# EAGLE library part LM358 (library SM-OpAmp)
Dual In Line / Socket
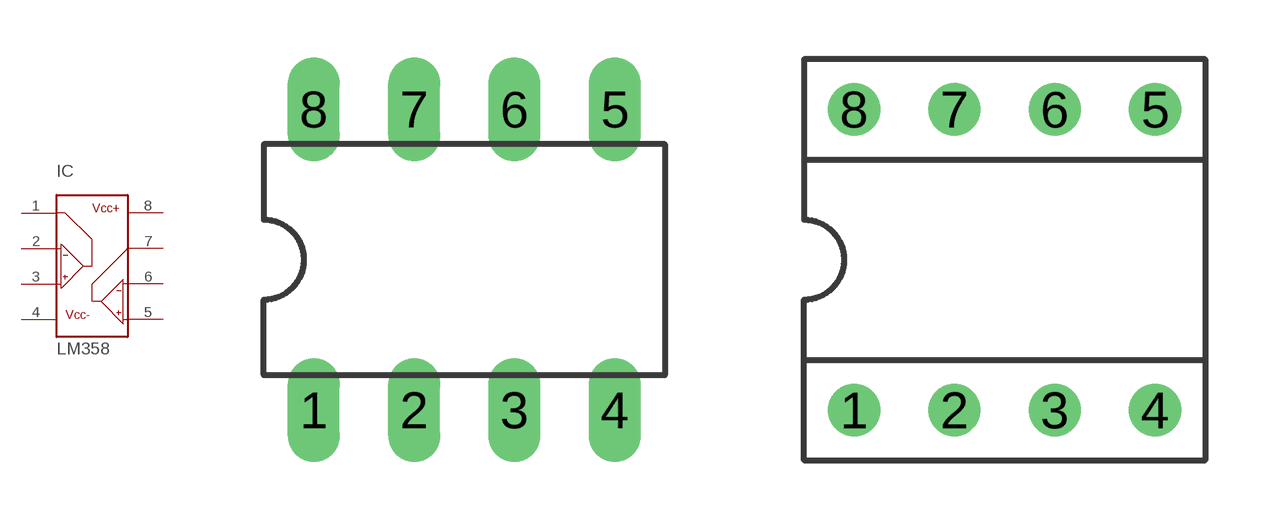
[diagram p0: symbol with the pads of DIP-08; footprints DIP-08, DIP-08-SOCKET]

Designator prefix IC

## LM358  [DIP-08]
1  OUT1  pas
2  IN1-  pas
3  IN1+  pas
4  VCC-  pas
5  IN2+  pas
6  IN2-  pas
7  OUT2+  pas
8  VCC+  pas

## LM358S  [DIP-08-SOCKET]
Pads as for DIP-08

## Footprint DIP-08 (pad centres in mm)
Dual In Line Package
drill 0.813 long: 1 -3.81,-3.81; 2 -1.27,-3.81; 3 1.27,-3.81; 4 3.81,-3.81; 5 3.81,3.81; 6 1.27,3.81; 7 -1.27,3.81; 8 -3.81,3.81

## Footprint DIP-08-SOCKET (pad centres in mm)
Dual In Line Socket
drill 0.813: 1 -3.81,-3.81; 2 -1.27,-3.81; 3 1.27,-3.81; 4 3.81,-3.81; 5 3.81,3.81; 6 1.27,3.81; 7 -1.27,3.81; 8 -3.81,3.81